# Altium schematic symbol library Schlib1.SchLib: 4 symbols
Pins are listed as number, name and electrical type; pins without a type are passive.

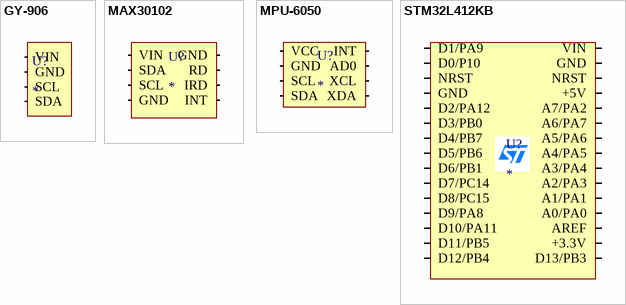
[diagram p0: symbols GY-906 to STM32L412KB]

## GY-906
designator U?
footprint GY-906
pins: 1 VIN, 2 GND, 3 SCL, 4 SDA

## MAX30102
designator U?
footprint max30102
pins: 1 VIN, 2 SDA, 3 SCL, 4 GND (power), 5 INT, 6 IRD, 7 RD, 8 GND (oe)

## MPU-6050
designator U?
footprint MPU-6050
pins: 1 VCC, 2 GND, 3 SCL, 4 SDA, 5 XDA, 6 XCL, 7 AD0, 8 INT

## STM32L412KB
designator U?
footprint NUCLEO32
pins: 1 D1/PA9, 2 D0/P10, 3 NRST, 4 GND (power), 5 D2/PA12, 6 D3/PB0, 7 D4/PB7, 8 D5/PB6, 9 D6/PB1, 10 D7/PC14, 11 D8/PC15, 12 D9/PA8, 13 D10/PA11, 14 D11/PB5, 15 D12/PB4, 16 D13/PB3, 17 +3.3V (power), 18 AREF (power), 19 A0/PA0, 20 A1/PA1, 21 A2/PA3, 22 A3/PA4, 23 A4/PA5, 24 A5/PA6, 25 A6/PA7, 26 A7/PA2, 27 +5V (power), 28 NRST, 29 GND (power), 30 VIN (power)